# EAGLE library part TRIPLE_BUFFER_74LVC3G07 (library classified)
Triple Buffer with Open Drain Output - 74LVC3G07 The 74LVC3G07 provides three non-inverting buffers. The output of the device is an open-drain and can be connected to other open-drain outputs to implement active-LOW wired-OR or active-HIGH wired-AND functions. Input can be driven from either 3.3 V or 5 V devices. This feature allows the use of this device in a mixed 3.3 V and 5 V environment. Schmitt trigger action at all inputs makes the circuit tolerant for slower input rise and fall time. This device is fully specified for partial power-down applications using IOFF. The IOFF circuitry disables the output, preventing the damaging backflow current through the device when it is powered down
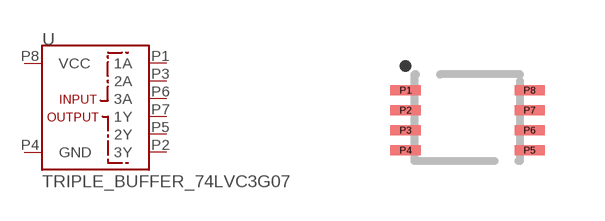
[diagram p1: symbol with the pads of SOP_8-PIN; footprint SOP_8-PIN]

Designator prefix U

## TRIPLE_BUFFER_74LVC3G07  [SOP_8-PIN]
P1  1A
P2  3Y
P3  2A
P4  GND  pwr
P5  2Y
P6  3A
P7  1Y
P8  VCC  pwr

## Footprint SOP_8-PIN (pad centres in mm)
Small Outline Package 8-Pin Mechanical Specifications Total Size: 3.2mm x 2.1mm Body Size: 2.4mm x 2.1mm Pad Size: .75mm x .25mm Pad Pitch: .5mm 8 total Pins
smd 0.75 x 0.25: P1 -1.571,0.748; P2 -1.571,0.248; P3 -1.571,-0.252; P4 -1.571,-0.752; P5 1.529,-0.752; P6 1.529,-0.252; P7 1.529,0.248; P8 1.529,0.748